# Altium schematic symbol library D_SOD323.SchLib: 1 symbol
Pins are listed as number, name and electrical type; pins without a type are passive.

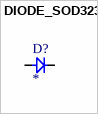
[diagram p0: symbol DIODE_SOD323]

## DIODE_SOD323
designator D?
Manufacturer: *; Manufacturer Part: *; Value: *; Voltage: *
footprint SOD323
pins: 1, 2